# Altium footprint library Passive.PcbLib: 49 footprints (part 4 of 4)
Each footprint in its own frame and in the unit in brackets; x right, y up, seen from the top. Pads: shape width x height; smd on the part's side, far side on the other; paste and mask are expansions set on the pad; w line width, h text height; cw(c..) or ccw(c..) is an arc to the next point about the centre after c.
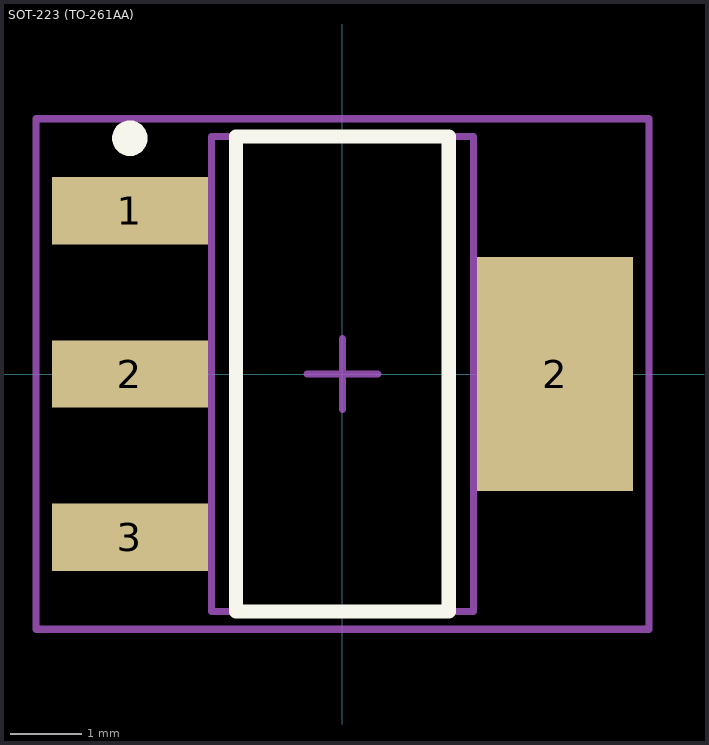
[diagram p3: the footprint, top view; thin cyan lines are the x and y axes]

## SOT-223 (TO-261AA) [mm] "SOT223, 4-Leads, Body 6,7x7,3mm (max), Pitch 2,30mm, IPC Medium Density"
height 1.7
pads (4):
  rect 2.2x0.95 smd: 1(-3,2.3) 2(-3,0) 3(-3,-2.3)
  rect 2.2x3.3 smd: 2(3,0)
Top Overlay:
  circle w0.25: c-3,3.325 r0.125
  lines w0.2: -1.5,-3.35 1.5,-3.35 1.5,3.35 -1.5,3.35 -1.5,-3.35
Mechanical 13:
  lines w0.1: -1.85,-3.35 1.85,-3.35 1.85,3.35 -1.85,3.35 -1.85,-3.35
Mechanical 15:
  lines w0.1: -0.5,0 0.5,0 ; 0,-0.5 0,0.5 ; -4.325,-3.6 4.325,-3.6 4.325,3.6 -4.325,3.6 -4.325,-3.6
3D body "User Library-SOT-223-1.step": height 1.64, standoff -0.01, extent -3.5,-3.25 3.5,3.25